# EAGLE library part GL852G (library genesys-logic)
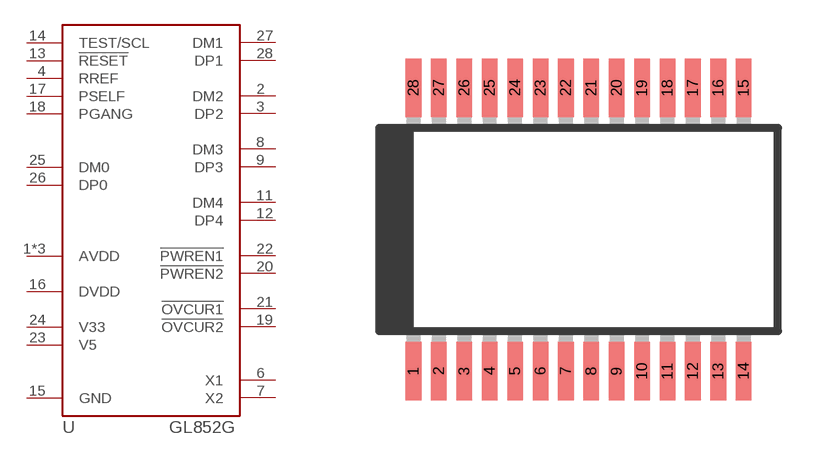
[diagram p0: symbol with the pads of SSOP28; footprint SSOP28]

Designator prefix -

## GL852G-SSOP28  [SSOP28]
1  AVDD
2  DM2
3  DP2
4  RREF
5  AVDD
6  X1
7  X2
8  DM3
9  DP3
10  AVDD
11  DM4
12  DP4
13  !RESET
14  TEST/SCL
15  GND
16  DVDD
17  PSELF
18  PGANG
19  !OVCUR2
20  !PWREN2
21  !OVCUR1
22  !PWREN1
23  V5
24  V33
25  DM0
26  DP0
27  DM1
28  DP1

## Footprint SSOP28 (pad centres in mm)
Shrink Small Outline Package package type SS
smd 0.4 x 1.5: 1 -4.225,-3.625; 2 -3.575,-3.625; 3 -2.925,-3.625; 4 -2.275,-3.625; 5 -1.625,-3.625; 6 -0.975,-3.625; 7 -0.325,-3.625; 8 0.325,-3.625; 9 0.975,-3.625; 10 1.625,-3.625; 11 2.275,-3.625; 12 2.925,-3.625; 13 3.575,-3.625; 14 4.225,-3.625; 15 4.225,3.625; 16 3.575,3.625; 17 2.925,3.625; 18 2.275,3.625; 19 1.625,3.625; 20 0.975,3.625; 21 0.325,3.625; 22 -0.325,3.625; 23 -0.975,3.625; 24 -1.625,3.625; 25 -2.275,3.625; 26 -2.925,3.625; 27 -3.575,3.625; 28 -4.225,3.625